# Altium integrated library common.IntLib: 74 symbols
Pins are listed as number, name and electrical type; pins without a type are passive.

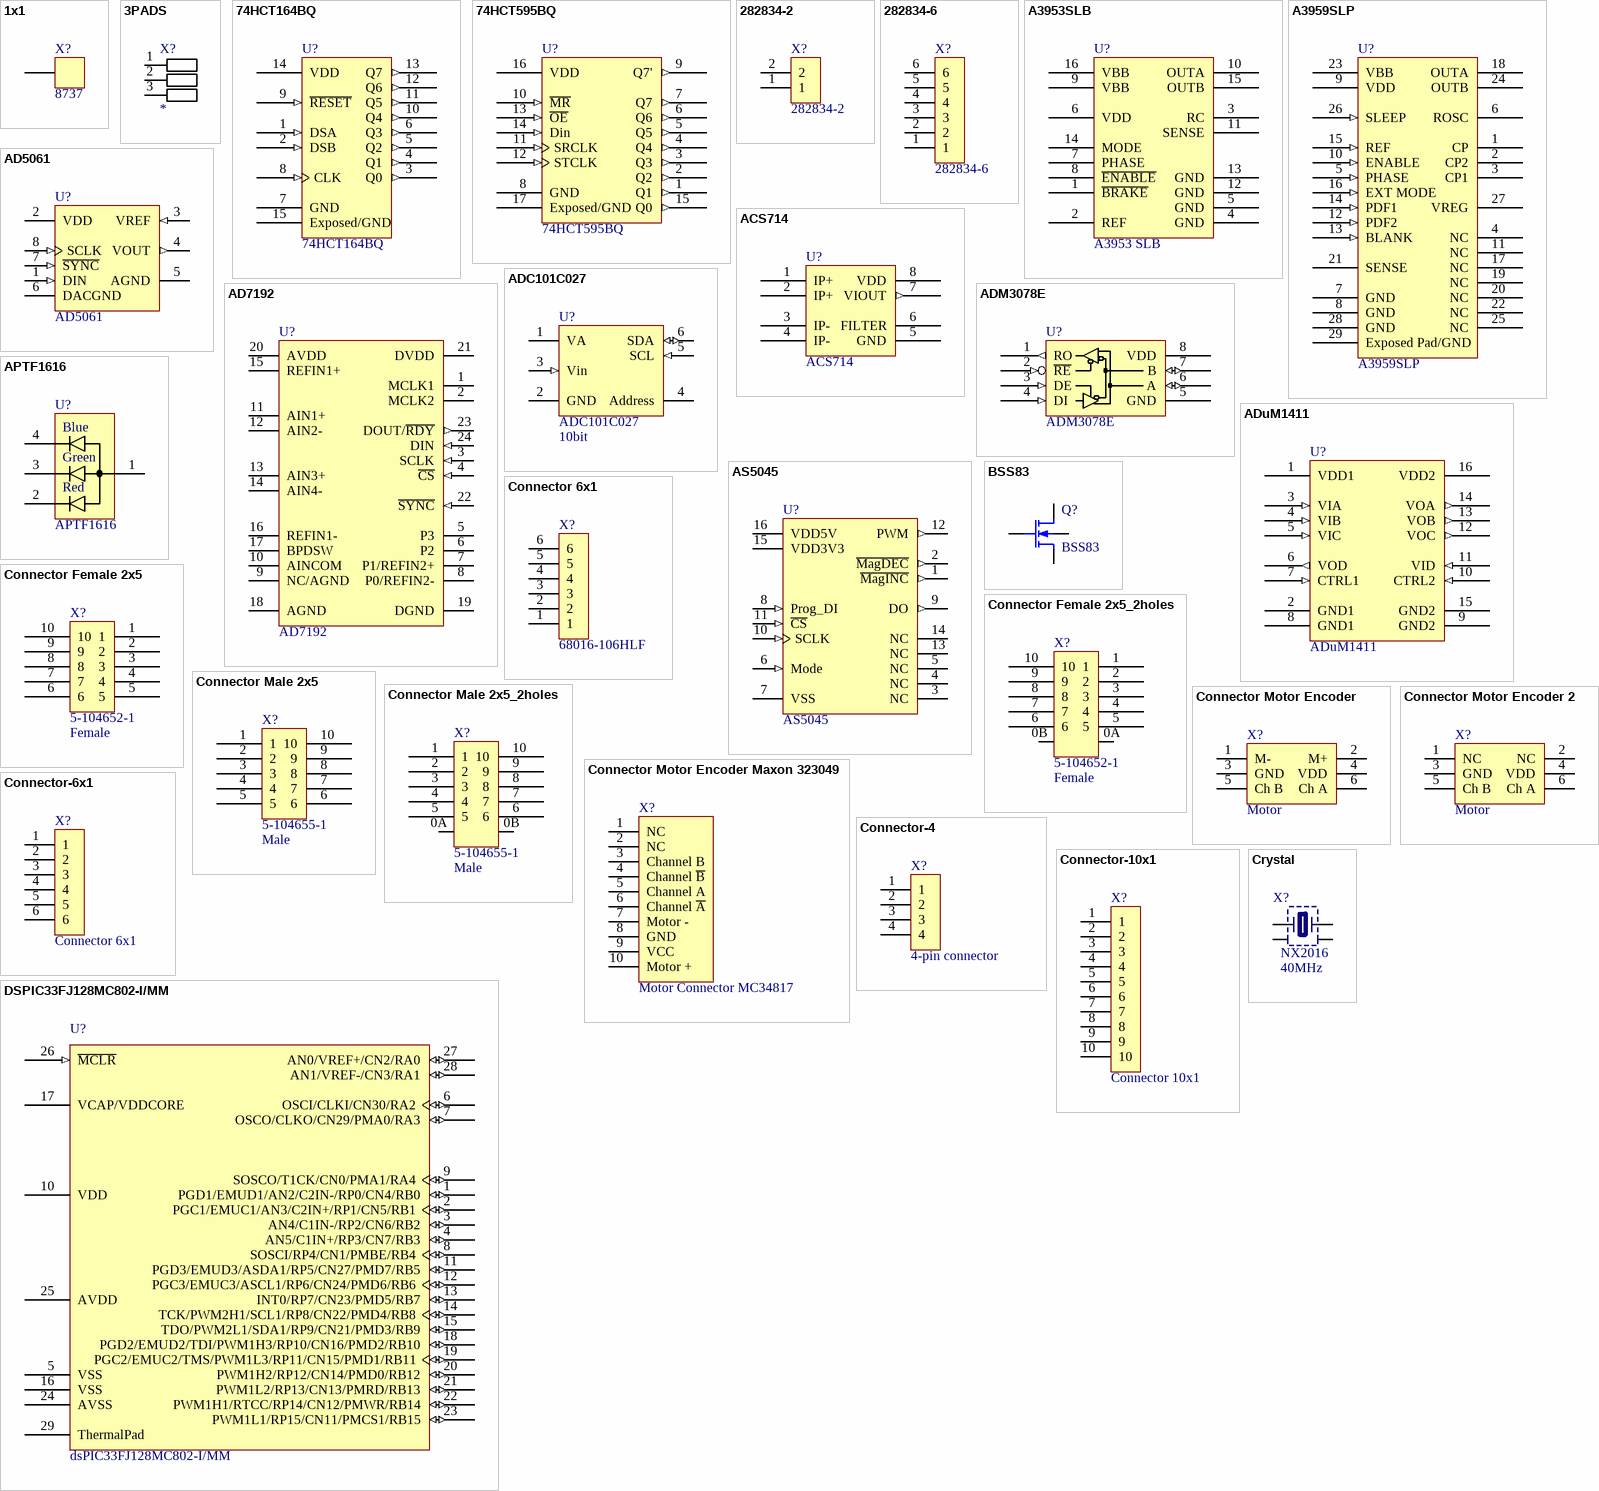
[diagram p0: symbols 1x1 to DSPIC33FJ128MC802-I/MM]

## 1x1
designator X?, comment 8737
Single pin connector
footprint 1x1 (Single hole connector)
footprint 8737 (1-pin wire-to-board connector, 4x4mm, Pitch 2.54mm, IPC Low Density)
footprint Battery (Battery connector, hole 1.1mm)
footprint Battery-HC (High current battery connector, hole 1.8mm)
pins: 1

## 3PADS
designator X?
3 pads
footprint 3pads (Pads, Body 3x2mm, Pitch 2mm, IPC Low Density)
pins: 1, 2, 3

## 74HCT164BQ
designator U?
8bit serial-to-parallel shift register, 5V supply
footprint DHVQFN14 (DHVQFN14, 14-Pin, Body 3.0x2.5mm, Pitch 0.5mm, IPC Low Density)
pins: 1 DSA (in), 2 DSB (in), 3 Q0 (out), 4 Q1 (out), 5 Q2 (out), 6 Q3 (out), 7 GND (power), 8 CLK (in), 9 ~{RESET} (in), 10 Q4 (out), 11 Q5 (out), 12 Q6 (out), 13 Q7 (out), 14 VDD (power), 15 Exposed/GND (power)

## 74HCT595BQ
designator U?
8bit serial-to-serial/parallel shift register with storage register, 5V supply
footprint DHVQFN16 (DHVQFN16, 14-Pin, Body 3.5x2.5mm, Pitch 0.5mm, IPC Low Density)
pins: 1 Q1 (out), 2 Q2 (out), 3 Q3 (out), 4 Q4 (out), 5 Q5 (out), 6 Q6 (out), 7 Q7 (out), 8 GND (power), 9 Q7' (out), 10 ~{MR} (in), 11 SRCLK (in), 12 STCLK (in), 13 ~{OE} (in), 14 Din (in), 15 Q0 (out), 16 VDD (power), 17 Exposed/GND (power)

## 282834-2
designator X?
2-pin wire-to-board connector
footprint 282834-2 (6-pin wire-to-board connector, 5.54x6.5mm, Pitch 2.54mm, IPC Low Density)
pins: 1, 2

## 282834-6
designator X?
6-pin wire-to-board connector
footprint 282834-6 (6-pin wire-to-board connector, 15.7x6.5mm, Pitch 2.54mm, IPC Low Density)
pins: 1, 2, 3, 4, 5, 6

## A3953SLB
designator U?, comment A3953 SLB
Full-Bridge PWM Motor Driver 1.3A, 50V, 3-5.5V supply
footprint SOICW-16_M (16-Pin Wide Body Small Outline Integrated Circuit 1.27 mm Pitch, IPC Low Density)
pins: 1 ~{BRAKE}, 2 REF, 3 RC, 4 GND (power), 5 GND (power), 6 VDD (power), 7 PHASE, 8 ~{ENABLE}, 9 VBB (power), 10 OUTA, 11 SENSE, 12 GND (power), 13 GND (power), 14 MODE, 15 OUTB, 16 VBB (power)

## A3959SLP
designator U?
DMOS Full-Bridge PWM Motor Driver 3A, 50V, 5V supply
footprint TSSOP65-28M (TSSOP, 28-Leads, Exposed Pad, Body 9.7x4.4mm, Pitch 0.65mm, IPC Low Density)
footprint TSSOP65-28M-thinpads (TSSOP, 28-Leads, Exposed Pad, Body 9.7x4.4mm, Pitch 0.65mm, IPC Low Density)
pins: 1 CP, 2 CP2, 3 CP1, 4 NC, 5 PHASE (in), 6 ROSC, 7 GND (power), 8 GND (power), 9 VDD (power), 10 ENABLE (in), 11 NC, 12 PDF2 (in), 13 BLANK (in), 14 PDF1 (in), 15 REF (in), 16 EXT MODE (in), 17 NC, 18 OUTA, 19 NC, 20 NC, 21 SENSE, 22 NC, 23 VBB (power), 24 OUTB, 25 NC, 26 SLEEP (in), 27 VREG, 28 GND, 29 Exposed Pad/GND (power)

## ACS714
designator U?
Hall Effect-Based Linear Current Sensor
footprint SOIC-8_M (SOIC, 8-Leads, Body 4.9x3.9mm, Pitch 1.27mm, IPC Low Density)
pins: 1 IP+, 2 IP+, 3 IP-, 4 IP-, 5 GND (power), 6 FILTER, 7 VIOUT (out), 8 VDD (power)

## AD5061
designator U?
DAC, SPI (up to 30MHz), settling time: 4us, 16bit, VDD: 2.7-5.5V
footprint SOT23-8 (8-Pin Small Outline Transistor Package, Body 2.9x2.8mm, IPC Low Density)
pins: 1 DIN (in), 2 VDD (power), 3 VREF (in), 4 VOUT (out), 5 AGND (power), 6 DACGND (power), 7 ~{SYNC} (in), 8 SCLK (in)

## AD7192
designator U?
2-channel 24-bit ADC with PGA
footprint TSSOP65-24N (TSSOP, 24-Leads, Body 7.8x4.4mm, Pitch 0.65mm, IPC Medium Density)
pins: 1 MCLK1, 2 MCLK2, 3 SCLK (in), 4 ~{CS} (in), 5 P3, 6 P2, 7 P1/REFIN2+, 8 P0/REFIN2-, 9 NC/AGND, 10 AINCOM, 11 AIN1+, 12 AIN2-, 13 AIN3+, 14 AIN4-, 15 REFIN1+, 16 REFIN1-, 17 BPDSW, 18 AGND, 19 DGND, 20 AVDD, 21 DVDD, 22 ~{SYNC} (in), 23 DOUT/~{RDY} (out), 24 DIN (in)

## ADC101C027
designator U?  Resolution: 10bit
ADC, SAR, 10bit
footprint TSOT23-6 (4-Pin Transistor Package, Body 2.9x2.85mm, IPC Low Density)
pins: 1 VA (power), 2 GND (power), 3 Vin (in), 4 Address, 5 SCL (in), 6 SDA (io)

## ADM3078E
designator U?
Half-Duplex RS485 Transciever, 3.3V, 16Mbps
footprint SOIC-8_M (SOIC, 8-Leads, Body 4.9x3.9mm, Pitch 1.27mm, IPC Low Density)
pins: 1 RO (out), 2 ~{RE} (in), 3 DE (in), 4 DI (in), 5 GND (power), 6 A (io), 7 B (io), 8 VDD (power)

## ADuM1411
designator U?
Quad-Channel Digital Isolator, 3V/5V level translation
footprint RW-16_M (16-Pin Wide Body Small Outline Integrated Circuit 1.27 mm Pitch, IPC Low Density)
pins: 1 VDD1 (power), 2 GND1 (power), 3 VIA (in), 4 VIB (in), 5 VIC (in), 6 VOD (out), 7 CTRL1 (in), 8 GND1 (power), 9 GND2 (power), 10 CTRL2 (in), 11 VID (in), 12 VOC (out), 13 VOB (out), 14 VOA (out), 15 GND2 (power), 16 VDD2 (power)

## APTF1616
designator U?
1.6x1.6mm 3-Color LED; Blue; Green; Red
footprint APTF1616 (LED, Body 1.6x1.6mm, Pitch 0.85mm, IPC Low Density)
pins: 1, 2, 3, 4
text: Blue; Green; Red

## AS5045
designator U?
12 Bit Programmable Magnetic Rotary Encoder
footprint SSOP16 (16-Pin Shrink Small-Outline Package, Body 7.8x6.2mm, 0.65 mm Pitch, IPC Medium Density)
pins: 1 ~{MagINC} (out), 2 ~{MagDEC} (out), 3 NC, 4 NC, 5 NC, 6 Mode (in), 7 VSS (power), 8 Prog_DI (in), 9 DO (out), 10 SCLK (in), 11 ~{CS} (in), 12 PWM (out), 13 NC, 14 NC, 15 VDD3V3 (power), 16 VDD5V (power)

## BSS83
designator Q?
N-Channel MOSFET 50mA, 10V, 45R
footprint SOT143B (4-Pin Transistor Package, Body 3.0x2.5mm, IPC Low Density)
pins: 1 B, 2 S, 3 D, 4 G

## Connector 6x1
designator X?, comment 68016-106HLF
Connector 6x1 pins
footprint Connector 2.54 6x1 (6-pin through-hole connector, pitch 2.54mm, hole size 0.8mm)
pins: 1, 2, 3, 4, 5, 6

## Connector Female 2x5
designator X?, comment 5-104652-1  Type: Female
Connector Female 2x5
footprint 5-104652-1 (2x5 Connector Female, Body 10.82x3.05mm, Pitch 1.27mm, IPC Low Density)
footprint 5-104652-1wo (2x5 Connector Female without holes, Body 10.82x3.05mm, Pitch 1.27mm, IPC Low Density)
footprint TLE-105-01-G-D-DV (2x5 Connector Female, Body 10x4mm, Pitch 2mm, IPC Low Density)
pins: 1, 2, 3, 4, 5, 6, 7, 8, 9, 10

## Connector Female 2x5_2holes
designator X?, comment 5-104652-1  Type: Female
Connector Female 2x5
footprint 5-104652-1 (2x5 Connector Female, Body 10.82x3.05mm, Pitch 1.27mm, IPC Low Density)
pins: 0A, 0B, 1, 2, 3, 4, 5, 6, 7, 8, 9, 10

## Connector Male 2x5
designator X?, comment 5-104655-1  Type: Male
Connector Male 2x5
footprint 5-104655-1 (2x5 Connector Male, Body 9.44x5.71mm, Pitch 1.27mm, IPC Low Density)
footprint 5-104655-1WO (2x5 Connector Male without holes, Body 9.44x5.71mm, Pitch 1.27mm, IPC Low Density)
footprint TMM-105-01-G-D-SM (2x5 Connector Female without holes, Body 10x3.94mm, Pitch 2mm, IPC Low Density)
pins: 1, 2, 3, 4, 5, 6, 7, 8, 9, 10

## Connector Male 2x5_2holes
designator X?, comment 5-104655-1  Type: Male
Connector Male 2x5
footprint 5-104655-1 (2x5 Connector Male, Body 9.44x5.71mm, Pitch 1.27mm, IPC Low Density)
pins: 0A, 0B, 1, 2, 3, 4, 5, 6, 7, 8, 9, 10

## Connector Motor Encoder
designator X?, comment Motor
Connector Faulhaber Motor with Encoder IE2
footprint IE2 (Connector Faulhaber Motor Encloder, Body 15.24x9.2mm, Pins 3x2, Grid 2.54mm)
pins: 1 M-, 2 M+, 3 GND, 4 VDD, 5 Ch B, 6 Ch A

## Connector Motor Encoder 2
designator X?, comment Motor
Connector Faulhaber Motor with Encoder IE2
footprint IE2 (Connector Faulhaber Motor Encloder, Body 15.24x9.2mm, Pins 3x2, Grid 2.54mm)
pins: 1 NC, 2 NC, 3 GND, 4 VDD, 5 Ch B, 6 Ch A

## Connector Motor Encoder Maxon 323049
designator X?, comment Motor Connector MC34817
Maxon Motor Connector
footprint MC34817 (10-pin FFC/FPC Connector from Multicomp, Body 17.4x2.9mm, Pitch 1mm, IPC Low Density)
pins: 1 NC, 2 NC, 3 Channel B, 4 Channel ~{B}, 5 Channel A, 6 Channel ~{A}, 7 Motor -, 8 GND, 9 VCC, 10 Motor +

## Connector-4
designator X?, comment 4-pin connector
footprint MicroMatch-4-SMD (7-338069-4) (4-pin Micro Match Connector Female, Body 9.7x5.0mm, Pitch 1.27mm, IPC Low Density)
pins: 1, 2, 3, 4

## Connector-6x1
designator X?, comment Connector 6x1
6-pin 1-row connector
pins: 1, 2, 3, 4, 5, 6

## Connector-10x1
designator X?, comment Connector 10x1
10-pin 1-row connector
pins: 1, 2, 3, 4, 5, 6, 7, 8, 9, 10

## Crystal
designator X?, comment value 40MHz  Name: NX2016  (hidden comment: NX2016AB-40MHz)
Crystal
footprint NX2016AB (Crystal Package, Body 2.0x1.6mm, Pitch 1.05mm, IPC Low Density)
footprint NX2520SA (Crystal Package, Body 2.5x2.0mm, Pitch 1.3mm, IPC Low Density)
pins: 1, 2, 3, 4

## DSPIC33FJ128MC802-I/MM
designator U?, comment dsPIC33FJ128MC802-I/MM
High-Performance 16-bit Digital Signal Controller, 128 KB Flash, 16 KB RAM, 28-Pin QFN, Industrial Temperature; Published: 29-Jan-2009; DatasheetVersion: revB, Mar-2008; PackageVersion: revAW, Oct-2008; PackageReference: QFNS-MM28; Publisher: Altium Limited; PackageDescription: 28-Lead Plastic Quad Flat, No Lead Package (MM) - 6x6x0.9 mm Body [QFN-S] with 0.40 mm Contact Length; ComponentLink1Description: Manufacturer Link; ComponentLink1URL: http://www.microchip.com; ComponentLink2Description: Datasheet; ComponentLink2URL: http://ww1.microchip.com/downloads/en/DeviceDoc/70291B.pdf; ComponentLink3Description: Packaging Specification; ComponentLink3URL: http://ww1.microchip.com/downloads/en/PackagingSpec/00049AW.pdf
footprint QFNS-MM28_M (QFN, 28-Leads, Body 6x6 mm, Pitch 0.65mm, IPC Low Density)
footprint QFNS-MM28_M_SmallExp (QFN, 28-Leads, Body 6x6 mm, Pitch 0.65mm, IPC Low Density)
pins: 1 PGD1/EMUD1/AN2/C2IN-/RP0/CN4/RB0 (io), 2 PGC1/EMUC1/AN3/C2IN+/RP1/CN5/RB1 (io), 3 AN4/C1IN-/RP2/CN6/RB2 (io), 4 AN5/C1IN+/RP3/CN7/RB3 (io), 5 VSS (power), 6 OSCI/CLKI/CN30/RA2 (io), 7 OSCO/CLKO/CN29/PMA0/RA3 (io), 8 SOSCI/RP4/CN1/PMBE/RB4 (io), 9 SOSCO/T1CK/CN0/PMA1/RA4 (io), 10 VDD (power), 11 PGD3/EMUD3/ASDA1/RP5/CN27/PMD7/RB5 (io), 12 PGC3/EMUC3/ASCL1/RP6/CN24/PMD6/RB6 (io), 13 INT0/RP7/CN23/PMD5/RB7 (io), 14 TCK/PWM2H1/SCL1/RP8/CN22/PMD4/RB8 (io), 15 TDO/PWM2L1/SDA1/RP9/CN21/PMD3/RB9 (io), 16 VSS (power), 17 VCAP/VDDCORE (power), 18 PGD2/EMUD2/TDI/PWM1H3/RP10/CN16/PMD2/RB10 (io), 19 PGC2/EMUC2/TMS/PWM1L3/RP11/CN15/PMD1/RB11 (io), 20 PWM1H2/RP12/CN14/PMD0/RB12 (io), 21 PWM1L2/RP13/CN13/PMRD/RB13 (io), 22 PWM1H1/RTCC/RP14/CN12/PMWR/RB14 (io), 23 PWM1L1/RP15/CN11/PMCS1/RB15 (io), 24 AVSS (power), 25 AVDD (power), 26 ~{MCLR} (in), 27 AN0/VREF+/CN2/RA0 (io), 28 AN1/VREF-/CN3/RA1 (io), 29 ThermalPad

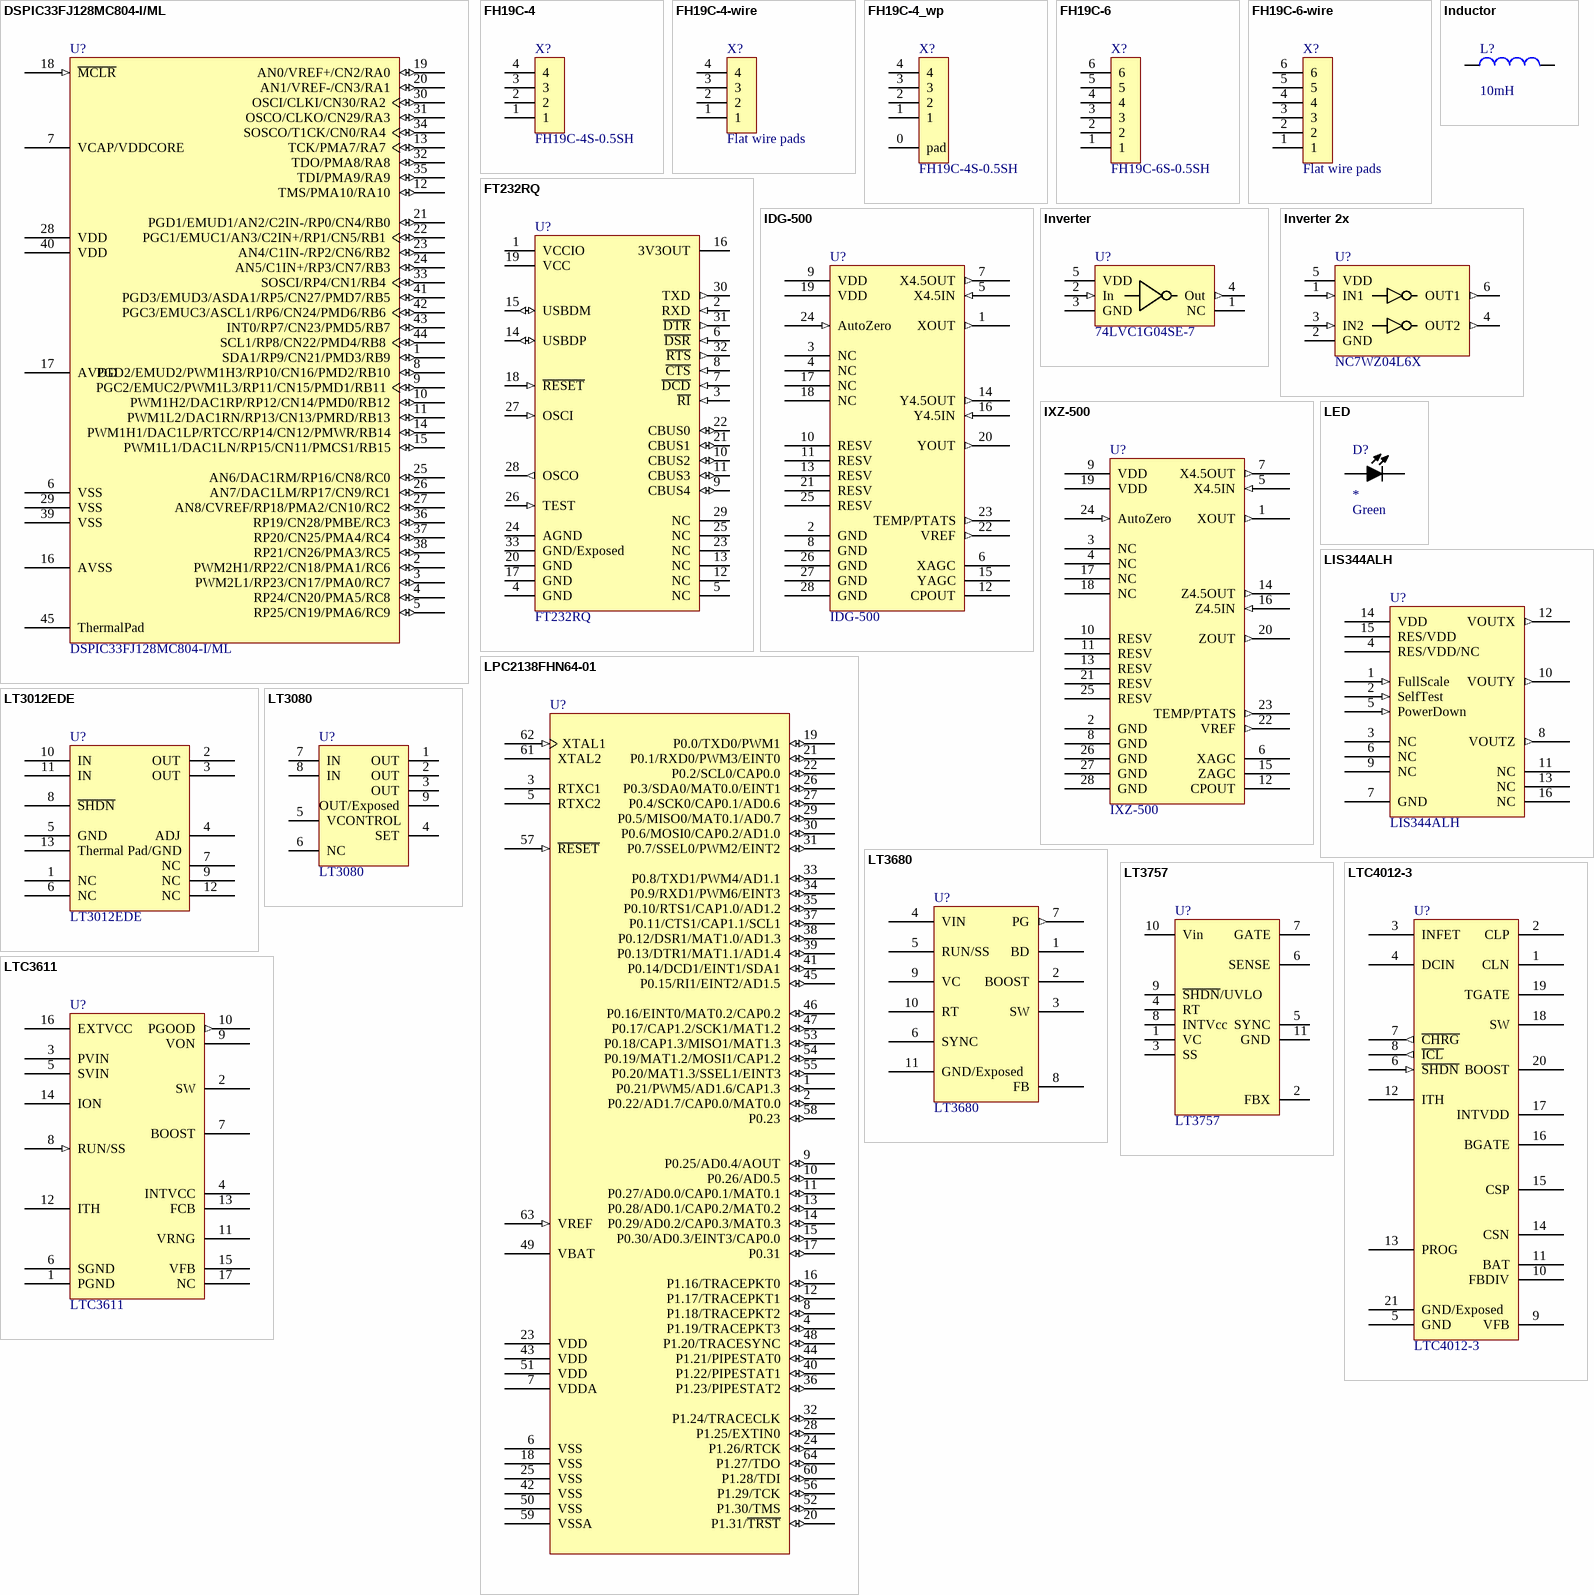
[diagram p1: symbols DSPIC33FJ128MC804-I/ML to LTC4012-3]

## DSPIC33FJ128MC804-I/ML
designator U?
High-Performance 16-bit Digital Signal Controller, 128 KB Flash, 16 KB RAM, 44-Pin QFN, Industrial Temperature; Published: 29-Jan-2009; DatasheetVersion: revB, Mar-2008; PackageVersion: revAW, Oct-2008; PackageReference: QFN-ML44; Publisher: Altium Limited; PackageDescription: 44-Lead Plastic Quad Flat, No Lead Package (ML) - 8x8 mm Body [QFN]; Code_JEDEC: MO-220; Code_IPC: QFN65P800X800-44V2; ComponentLink1Description: Manufacturer Link; ComponentLink1URL: http://www.microchip.com; ComponentLink2Description: Datasheet; ComponentLink2URL: http://ww1.microchip.com/downloads/en/DeviceDoc/70291B.pdf; ComponentLink3Description: Packaging Specification; ComponentLink3URL: http://ww1.microchip.com/downloads/en/PackagingSpec/00049AW.pdf
footprint QFN-ML44_L (QFN, 44-Leads, Body 8x8 mm, Pitch 0.65mm, IPC High Density)
footprint QFN-ML44_M (QFN, 44-Leads, Body 8x8 mm, Pitch 0.65mm, IPC Low Density)
footprint QFN-ML44_N (QFN, 44-Leads, Body 8x8 mm, Pitch 0.65mm, IPC Medium Density)
pins: 1 SDA1/RP9/CN21/PMD3/RB9 (io), 2 PWM2H1/RP22/CN18/PMA1/RC6 (io), 3 PWM2L1/RP23/CN17/PMA0/RC7 (io), 4 RP24/CN20/PMA5/RC8 (io), 5 RP25/CN19/PMA6/RC9 (io), 6 VSS (power), 7 VCAP/VDDCORE (power), 8 PGD2/EMUD2/PWM1H3/RP10/CN16/PMD2/RB10 (io), 9 PGC2/EMUC2/PWM1L3/RP11/CN15/PMD1/RB11 (io), 10 PWM1H2/DAC1RP/RP12/CN14/PMD0/RB12 (io), 11 PWM1L2/DAC1RN/RP13/CN13/PMRD/RB13 (io), 12 TMS/PMA10/RA10 (io), 13 TCK/PMA7/RA7 (io), 14 PWM1H1/DAC1LP/RTCC/RP14/CN12/PMWR/RB14 (io), 15 PWM1L1/DAC1LN/RP15/CN11/PMCS1/RB15 (io), 16 AVSS (power), 17 AVDD (power), 18 ~{MCLR} (in), 19 AN0/VREF+/CN2/RA0 (io), 20 AN1/VREF-/CN3/RA1 (io), 21 PGD1/EMUD1/AN2/C2IN-/RP0/CN4/RB0 (io), 22 PGC1/EMUC1/AN3/C2IN+/RP1/CN5/RB1 (io), 23 AN4/C1IN-/RP2/CN6/RB2 (io), 24 AN5/C1IN+/RP3/CN7/RB3 (io), 25 AN6/DAC1RM/RP16/CN8/RC0 (io), 26 AN7/DAC1LM/RP17/CN9/RC1 (io), 27 AN8/CVREF/RP18/PMA2/CN10/RC2 (io), 28 VDD (power), 29 VSS (power), 30 OSCI/CLKI/CN30/RA2 (io), 31 OSCO/CLKO/CN29/RA3 (io), 32 TDO/PMA8/RA8 (io), 33 SOSCI/RP4/CN1/RB4 (io), 34 SOSCO/T1CK/CN0/RA4 (io), 35 TDI/PMA9/RA9 (io), 36 RP19/CN28/PMBE/RC3 (io), 37 RP20/CN25/PMA4/RC4 (io), 38 RP21/CN26/PMA3/RC5 (io), 39 VSS (power), 40 VDD (power), 41 PGD3/EMUD3/ASDA1/RP5/CN27/PMD7/RB5 (io), 42 PGC3/EMUC3/ASCL1/RP6/CN24/PMD6/RB6 (io), 43 INT0/RP7/CN23/PMD5/RB7 (io), 44 SCL1/RP8/CN22/PMD4/RB8 (io), 45 ThermalPad

## FH19C-4
designator X?, comment FH19C-4S-0.5SH
Board to flexible PCB/wire connector
footprint FH19C-4S-0.5SH (Board-to-flexible-PCB connector, 4 pins, Body 4x3mm, Pitch 0.5mm, IPC Low Density)
pins: 1, 2, 3, 4

## FH19C-4-wire
designator X?, comment Flat wire pads
Board to flexible PCB/wire connector
footprint FH19C-4S-0.5SH-wire (Wire for Board-to-flexible-PCB connector, 4 pins, Body 2x0.5mm, Pitch 0.5mm, IPC Low Density)
pins: 1, 2, 3, 4

## FH19C-4_wp
designator X?, comment FH19C-4S-0.5SH
Board to flexible PCB/wire connector
footprint FH19C-4S-0.5SH (Board-to-flexible-PCB connector, 4 pins, Body 4x3mm, Pitch 0.5mm, IPC Low Density)
pins: 0 pad, 1, 2, 3, 4

## FH19C-6
designator X?, comment FH19C-6S-0.5SH
Board to flexible PCB/wire connector
footprint FH19C-6S-0.5SH (Board-to-flexible-PCB connector, 6 pins, Body 5.15x3mm, Pitch 0.5mm, IPC Low Density)
pins: 1, 2, 3, 4, 5, 6

## FH19C-6-wire
designator X?, comment Flat wire pads
Board to flexible PCB/wire connector
footprint FH19C-6S-0.5SH-wire (Wire for Board-to-flexible-PCB connector, 6 pins, Body 2x0.5mm, Pitch 0.5mm, IPC Low Density)
pins: 1, 2, 3, 4, 5, 6

## FT232RQ
designator U?
FT232R USB UART; Manufacturer: *; Note: *; ManufacturerPartNo: *
footprint QFN-32 (32-Pin QFN 0.5 mm Pitch)
footprint QFN-32_smallPad (QFN 32-Pin, Body 5x5mm, Pitch 0.5mm, IPC Low Density)
pins: 1 VCCIO (power), 2 RXD (in), 3 ~{RI} (in), 4 GND (power), 5 NC, 6 ~{DSR} (in), 7 ~{DCD} (in), 8 ~{CTS} (in), 9 CBUS4 (io), 10 CBUS2 (io), 11 CBUS3 (io), 12 NC, 13 NC, 14 USBDP (io), 15 USBDM (io), 16 3V3OUT (power), 17 GND (power), 18 ~{RESET} (in), 19 VCC (power), 20 GND (power), 21 CBUS1 (io), 22 CBUS0 (io), 23 NC, 24 AGND (power), 25 NC, 26 TEST (in), 27 OSCI (in), 28 OSCO (out), 29 NC, 30 TXD (out), 31 ~{DTR} (out), 32 ~{RTS} (out), 33 GND/Exposed (power)
2 alternate drawings of the same symbol

## IDG-500
designator U?
X-,Y-Axis Rate Gyroscope
footprint QFN-28_M (QFN, 28-Leads, Body 5x4mm, Pitch 0.5mm, IPC Low Density)
pins: 1 XOUT (out), 2 GND (power), 3 NC, 4 NC, 5 X4.5IN (in), 6 XAGC, 7 X4.5OUT (out), 8 GND (power), 9 VDD (power), 10 RESV, 11 RESV, 12 CPOUT, 13 RESV, 14 Y4.5OUT (out), 15 YAGC, 16 Y4.5IN (in), 17 NC, 18 NC, 19 VDD (power), 20 YOUT (out), 21 RESV, 22 VREF (out), 23 TEMP/PTATS (out), 24 AutoZero (in), 25 RESV, 26 GND (power), 27 GND (power), 28 GND (power)

## Inductor
designator L?  value 10mH
Inductor; Code_IEC: 1005; Published: 8-Jun-2000; LatestRevisionDate: 17-Jul-2002; LatestRevisionNote: Re-released for DXP Platform.; PackageReference: 0402-A; Publisher: Altium Limited; Code_JEITA: 0402
simulation model INDUCTOR (Inductor)
signal-integrity model Inductor
footprint HCP0704 (Inductor from Coiltronics, Body 6.8x6.8mm, IPC Low Density)
footprint IHLP5050 (Inductor from Vishay/Dale, Body 13.2x12.9mm, IPC Low Density)
pins: 1, 2

## Inverter
designator U?, comment 74LVC1G04SE-7
Inverter
footprint SOT353 (5-Pin Transistor Package, Body 2.0x1.2mm, IPC Low Density)
footprint SOT353-thin_pads (5-Pin Transistor Package, Body 2.0x1.2mm, IPC Low Density)
pins: 1 NC, 2 In (in), 3 GND (power), 4 Out (out), 5 VDD (power)

## Inverter 2x
designator U?, comment NC7WZ04L6X
Double Inverter
footprint MicroPak-6 (MicroPak, Body 1.45x1.0mm, Pitch 0.5mm, IPC Low Density)
pins: 1 IN1 (in), 2 GND (power), 3 IN2 (in), 4 OUT2 (out), 5 VDD (power), 6 OUT1 (out)

## IXZ-500
designator U?
X-,Z-Axis Rate Gyroscope
footprint QFN-28_M (QFN, 28-Leads, Body 5x4mm, Pitch 0.5mm, IPC Low Density)
pins: 1 XOUT (out), 2 GND (power), 3 NC, 4 NC, 5 X4.5IN (in), 6 XAGC, 7 X4.5OUT (out), 8 GND (power), 9 VDD (power), 10 RESV, 11 RESV, 12 CPOUT, 13 RESV, 14 Z4.5OUT (out), 15 ZAGC, 16 Z4.5IN (in), 17 NC, 18 NC, 19 VDD (power), 20 ZOUT (out), 21 RESV, 22 VREF (out), 23 TEMP/PTATS (out), 24 AutoZero (in), 25 RESV, 26 GND (power), 27 GND (power), 28 GND (power)

## LED
designator D?  Color: Green
LED
footprint IR-LED-2.54 (2-pin LED connector, Pitch 2.54mm, IPC Low Density)
pins: 1 A, 2 C

## LIS344ALH
designator U?
MEMS inertial sensor; 2/6g 3-axis accelerometer
footprint LGA16L (Land Grid Array, Body 4.0x4.0mm, Pitch 0.65mm, IPC Low Density)
pins: 1 FullScale (in), 2 SelfTest (in), 3 NC, 4 RES/VDD/NC, 5 PowerDown (in), 6 NC, 7 GND (power), 8 VOUTZ (out), 9 NC, 10 VOUTY (out), 11 NC, 12 VOUTX (out), 13 NC, 14 VDD (power), 15 RES/VDD, 16 NC

## LPC2138FHN64-01
designator U?
ARM7 16/32-Bit Microcontroller, 512KB Flash, 32KB RAM, Enhanced UART, ADC, Fast I/O and BOD, 64-Lead LQFP; Published: 17-Aug-2007; DatasheetVersion: rev.03, Sep-2006; PackageVersion: Mar-2004; PackageReference: SOT804-2; Publisher: Altium Limited; PackageDescription: 64-Pin Plastic Thermal Enhanced Very Thin Quad Flat Pack No-Lead, HVQFN64; Code_JEDEC: MO-220; ComponentLink1Description: Manufacturer Link; ComponentLink1URL: http://www.nxp.com/; ComponentLink2Description: Datasheet; ComponentLink2URL: http://www.standardics.nxp.com/products/lpc2000/datasheet/lpc2131.lpc2132.lpc2134.lpc2136.lpc2138.pdf
footprint HVQFN-64 (HVQFN 64-Pin, Body 9x9mm, Pitch 0.5mm, IPC Low Density)
pins: 1 P0.21/PWM5/AD1.6/CAP1.3 (io), 2 P0.22/AD1.7/CAP0.0/MAT0.0 (io), 3 RTXC1, 4 P1.19/TRACEPKT3 (io), 5 RTXC2, 6 VSS (power), 7 VDDA (power), 8 P1.18/TRACEPKT2 (io), 9 P0.25/AD0.4/AOUT (io), 10 P0.26/AD0.5 (io), 11 P0.27/AD0.0/CAP0.1/MAT0.1 (io), 12 P1.17/TRACEPKT1 (io), 13 P0.28/AD0.1/CAP0.2/MAT0.2 (io), 14 P0.29/AD0.2/CAP0.3/MAT0.3 (io), 15 P0.30/AD0.3/EINT3/CAP0.0 (io), 16 P1.16/TRACEPKT0 (io), 17 P0.31 (io), 18 VSS (power), 19 P0.0/TXD0/PWM1 (io), 20 P1.31/~{TRST} (io), 21 P0.1/RXD0/PWM3/EINT0 (io), 22 P0.2/SCL0/CAP0.0 (io), 23 VDD (power), 24 P1.26/RTCK (io), 25 VSS (power), 26 P0.3/SDA0/MAT0.0/EINT1 (io), 27 P0.4/SCK0/CAP0.1/AD0.6 (io), 28 P1.25/EXTIN0 (io), 29 P0.5/MISO0/MAT0.1/AD0.7 (io), 30 P0.6/MOSI0/CAP0.2/AD1.0 (io), 31 P0.7/SSEL0/PWM2/EINT2 (io), 32 P1.24/TRACECLK (io), 33 P0.8/TXD1/PWM4/AD1.1 (io), 34 P0.9/RXD1/PWM6/EINT3 (io), 35 P0.10/RTS1/CAP1.0/AD1.2 (io), 36 P1.23/PIPESTAT2 (io), 37 P0.11/CTS1/CAP1.1/SCL1 (io), 38 P0.12/DSR1/MAT1.0/AD1.3 (io), 39 P0.13/DTR1/MAT1.1/AD1.4 (io), 40 P1.22/PIPESTAT1 (io), 41 P0.14/DCD1/EINT1/SDA1 (io), 42 VSS (power), 43 VDD (power), 44 P1.21/PIPESTAT0 (io), 45 P0.15/RI1/EINT2/AD1.5 (io), 46 P0.16/EINT0/MAT0.2/CAP0.2 (io), 47 P0.17/CAP1.2/SCK1/MAT1.2 (io), 48 P1.20/TRACESYNC (io), 49 VBAT (power), 50 VSS (power), 51 VDD (power), 52 P1.30/TMS (io), 53 P0.18/CAP1.3/MISO1/MAT1.3 (io), 54 P0.19/MAT1.2/MOSI1/CAP1.2 (io), 55 P0.20/MAT1.3/SSEL1/EINT3 (io), 56 P1.29/TCK (io), 57 ~{RESET} (in), 58 P0.23 (io), 59 VSSA (power), 60 P1.28/TDI (io), 61 XTAL2, 62 XTAL1 (in), 63 VREF (in), 64 P1.27/TDO (io)

## LT3012EDE
designator U?
250mA, 4V to 80V, Low Dropout Micropower Linear Regulator
footprint DFN-12 (DFN, 12-Leads, Body 4x3mm, Pitch 0.5mm, IPC Low Density)
footprint DFN-12 - DSC (DFN with double solder connection, 12-Leads, Body 4x3mm, Pitch 0.5mm, IPC Low Density)
pins: 1 NC, 2 OUT (power), 3 OUT (power), 4 ADJ, 5 GND (power), 6 NC, 7 NC, 8 ~{SHDN}, 9 NC, 10 IN (power), 11 IN (power), 12 NC, 13 Thermal Pad/GND (power)

## LT3080
designator U?
LDO adj, input: 0-36V, 1.1A
footprint MSOP-8-TP (MSOP, 8-Leads+thermal pad, Body 3x3mm, Pitch 0.65mm, IPC Medium Density)
pins: 1 OUT, 2 OUT, 3 OUT, 4 SET, 5 VCONTROL, 6 NC, 7 IN, 8 IN, 9 OUT/Exposed

## LT3680
designator U?
36V, 3.5A, 2.4MHz Step-Down Switching Regulator
footprint DFN-10 (DFN, 10-Leads, Body 3x3mm, Pitch 0.5mm, IPC Low Density)
footprint DFN-10 - DSC (DFN with double solder connections, 10-Leads, Body 3x3mm, Pitch 0.5mm, IPC Low Density)
footprint MSOP-10-TP (MSOP, 10-Leads+thermal pad, Body 3x4.9mm, Pitch 0.5mm, IPC Medium Density)
pins: 1 BD, 2 BOOST, 3 SW, 4 VIN, 5 RUN/SS, 6 SYNC, 7 PG (out), 8 FB, 9 VC, 10 RT, 11 GND/Exposed

## LT3757
designator U?
2.9-40V SEPIC, Flyback, Boost and Inverting Converter with external switch
footprint MSOP-10-TP (MSOP, 10-Leads+thermal pad, Body 3x4.9mm, Pitch 0.5mm, IPC Medium Density)
pins: 1 VC, 2 FBX, 3 SS, 4 RT, 5 SYNC, 6 SENSE, 7 GATE, 8 INTVcc, 9 ~{SHDN}/UVLO, 10 Vin, 11 GND

## LTC3611
designator U?
10A, 32V Synchronous Step-Down DC/DC Converter
footprint QFN-64-MultiPad2 (QFN, 64 Leads, Body 9x9mm, Pitch 0.5mm, IPC Low Density)
pins: 1 PGND, 2 SW, 3 PVIN, 4 INTVCC, 5 SVIN, 6 SGND, 7 BOOST, 8 RUN/SS (in), 9 VON, 10 PGOOD (out), 11 VRNG, 12 ITH, 13 FCB, 14 ION, 15 VFB, 16 EXTVCC, 17 NC

## LTC4012-3
designator U?
Multi-Chemistry Battery Charger
footprint QFN-20 (20-Pin QFN; 4x4mm; 0.5mm Pitch)
pins: 1 CLN, 2 CLP, 3 INFET, 4 DCIN, 5 GND, 6 ~{SHDN} (in), 7 ~{CHRG} (out), 8 ~{ICL} (out), 9 VFB, 10 FBDIV, 11 BAT, 12 ITH, 13 PROG, 14 CSN, 15 CSP, 16 BGATE, 17 INTVDD, 18 SW, 19 TGATE, 20 BOOST, 21 GND/Exposed

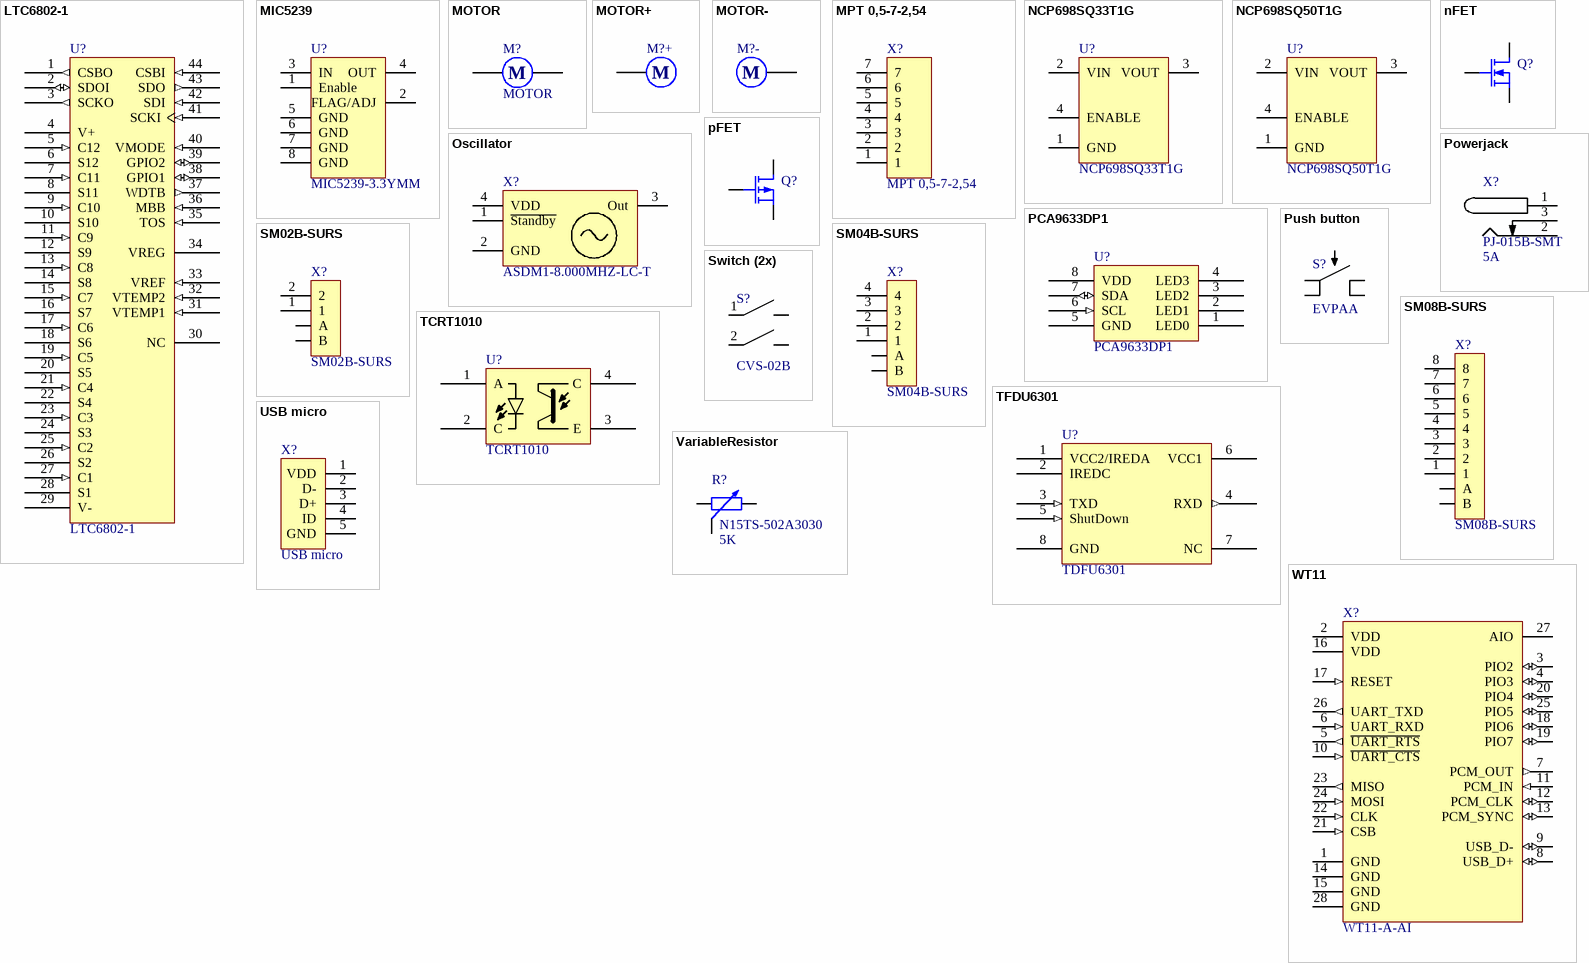
[diagram p2: symbols LTC6802-1 to WT11]

## LTC6802-1
designator U?
Multicell Battery Stack Monitor
footprint SSOP-44 (SSOP, 44-Leads, Body 13.1x5.6mm, Pitch 0.5mm, IPC Low Density)
pins: 1 CSBO (out), 2 SDOI (io), 3 SCKO (out), 4 V+ (power), 5 C12 (in), 6 S12, 7 C11 (in), 8 S11, 9 C10 (in), 10 S10, 11 C9 (in), 12 S9, 13 C8 (in), 14 S8, 15 C7 (in), 16 S7, 17 C6 (in), 18 S6, 19 C5 (in), 20 S5, 21 C4 (in), 22 S4, 23 C3 (in), 24 S3, 25 C2 (in), 26 S2, 27 C1 (in), 28 S1, 29 V- (power), 30 NC, 31 VTEMP1 (in), 32 VTEMP2 (in), 33 VREF (in), 34 VREG (power), 35 TOS (in), 36 MBB (in), 37 WDTB (out), 38 GPIO1 (io), 39 GPIO2 (io), 40 VMODE (in), 41 SCKI (in), 42 SDI (in), 43 SDO (out), 44 CSBI (in)

## MIC5239
designator U?, comment MIC5239-3.3YMM
LDO, 500mA, Vin:2.3V-30V
footprint MSOP-8 (MSOP, 8-Leads, Body 3x3mm, Pitch 0.65mm, IPC Medium Density)
footprint MSOP-8-thin_pads (MSOP, 8-Leads, Body 3x3mm, Pitch 0.65mm, IPC Medium Density)
pins: 1 Enable, 2 FLAG/ADJ, 3 IN (power), 4 OUT (power), 5 GND (power), 6 GND (power), 7 GND (power), 8 GND (power)

## MOTOR
designator M?
footprint Motor (Motor connection, hole 1.5mm,  pitch 5mm)
footprint MotorBrushed (Motor connection, hole 1.1mm,  pitch 2.54mm)
pins: 1, 2
text: M

## MOTOR+
designator M?+  (value not drawn)
Motor
footprint MotorBrushedSingle (Brushed motor power connector, hole 1.1mm)
pins: 1
text: M

## MOTOR-
designator M?-  (value not drawn)
Motor
footprint MotorBrushedSingle (Brushed motor power connector, hole 1.1mm)
pins: 1
text: M

## MPT 0,5-7-2,54
designator X?
7-pin wire-to-board connector
footprint MPT 0,5-7-2,54 (7-pin wire-to-board connector, 18.24x6.2mm, Pitch 2.54mm, IPC Low Density)
pins: 1, 2, 3, 4, 5, 6, 7

## NCP698SQ33T1G
designator U?
LDO fixed 3.3V, input: 3.6-6V, 150mA
footprint SC-82AB (4-Lead Body 2.0x1.25mm, Pitch 1.3mm, IPC Low Density)
pins: 1 GND (power), 2 VIN (power), 3 VOUT (power), 4 ENABLE

## NCP698SQ50T1G
designator U?
LDO fixed 5V, input: 5.3-6V, 150mA
footprint SC-82AB (4-Lead Body 2.0x1.25mm, Pitch 1.3mm, IPC Low Density)
pins: 1 GND (power), 2 VIN (power), 3 VOUT (power), 4 ENABLE

## nFET
designator Q?
N-Channel MOSFET
footprint SSS-Mini-3P (3-Pin Transistor Package, Body 1.2x0.8mm, IPC Low Density); pin to pad D>3 G>1 S>2
footprint SOIC-8_M-MOSFET (SOIC, 8-Leads, Body 4.9x3.9mm, Pitch 1.27mm, IPC Low Density)
footprint TO-252A DPak (3-Pin Transistor Package, Body 6.75x10.4mm, IPC Low Density); pin to pad D>4 G>1 S>3
pins: D, G, S

## Oscillator
designator X?, comment ASDM1-8.000MHZ-LC-T
Oscillator; Name: ASDM1; Value: 8MHz
footprint Crystal-Oscillator-2520 (Crystal Package, Body 2.5x2.0mm, Pitch 1.65mm, IPC Low Density)
pins: 1 ~{Standby}, 2 GND, 3 Out, 4 VDD

## PCA9633DP1
designator U?
4-bit I2C LED driver
footprint SOT505-1 (Small Outline Package, Body 3.0x3.0mm, Pitch 0.65mm, IPC Low Density)
pins: 1 LED0, 2 LED1, 3 LED2, 4 LED3, 5 GND (power), 6 SCL (in), 7 SDA (io), 8 VDD (power)

## pFET
designator Q?
P-Channel MOSFET
footprint SSS-Mini-3P (3-Pin Transistor Package, Body 1.2x0.8mm, IPC Low Density); pin to pad D>3 G>1 S>2
footprint SOIC-8_M-MOSFET (SOIC, 8-Leads, Body 4.9x3.9mm, Pitch 1.27mm, IPC Low Density)
pins: D, G, S

## Powerjack
designator X?, comment PJ-015B-SMT  Current: 5A
Power jack ID 2,5 mm, AD 5,5 mm
footprint PJ-015B-SMT (Power jack vertical SMD connector, Body 15.7x15.7mm, IPC Low Density)
pins: 1, 2, 3

## Push button
designator S?, comment EVPAA
Push button
footprint EVPAA (Push button, Body 3.5x2.9mm, Pitch 2.1mm, IPC Low Density)
pins: 1, 2, 3, 4

## SM02B-SURS
designator X?
wire-to-board connector
footprint SM02B-SURS (Wire-to-board connector, 2 pins, Body 3.8x2.7mm, Pitch 0.8mm, IPC Low Density)
pins: 1, 2, A, B

## SM04B-SURS
designator X?
wire-to-board connector
footprint SM04B-SURS (Wire-to-board connector, 4 pins, Body 5.4x2.7mm, Pitch 0.8mm, IPC Low Density)
pins: 1, 2, 3, 4, A, B

## SM08B-SURS
designator X?
wire-to-board connector
footprint SM08B-SURS (Wire-to-board connector, 8 pins, Body 8.6x2.7mm, Pitch 0.8mm, IPC Low Density)
pins: 1, 2, 3, 4, 5, 6, 7, 8, A, B

## Switch (2x)
designator S?, comment CVS-02B
Double Switch
footprint CVS-02B (Double DIP Switch, Body 4.7x3.0mm, Pitch 1mm, IPC Low Density)
pins: 1, 2, 3, 4

## TCRT1010
designator U?
Reflective Infrared Distance Sensor with Transistor Output
footprint TCRT1010 (Body 7.0x4.0mm, Pitch 1.27mm)
pins: 1 A, 2 C, 3 E, 4 C

## TFDU6301
designator U?, comment TDFU6301
Fast Infrared Transciever Module 4Mbit/s
footprint TFDU6301 (IRDA package, Body 8.5x2.5mm, Pitch 0.95mm, IPC Low Density)
pins: 1 VCC2/IREDA (power), 2 IREDC, 3 TXD (in), 4 RXD (out), 5 ShutDown (in), 6 VCC1 (power), 7 NC, 8 GND (power)

## USB micro
designator X?
Micro USB Connector
footprint USB micro (Micro USB package, Body 7.5x5.0mm)
pins: 1 VDD, 2 D-, 3 D+, 4 ID, 5 GND

## VariableResistor
designator R?, comment N15TS-502A3030  value 5K
Variable Resistor; Set Position: 0.5; Published: 8-Jun-2000; LatestRevisionDate: 17-Jul-2002; LatestRevisionNote: Re-released for DXP Platform.; PackageReference: AXIAL-0.6; Publisher: Rico
footprint N15TV (Potentiometer from Piher, Through Hole Mount, Body 15.5x15.5mm)
footprint N15TS (Potentiometer from Piher, SMD, Body 15.5x15.5mm)
footprint N15TS-nh (Potentiometer from Piher without hole in the middle, SMD, Body 15.5x15.5mm)
footprint MembranePotentiometer (3-pin connector to membrane potentiometer, Pitch 2.54mm, IPC Low Density); pin to pad 2>3 3>2
pins: 1, 2, 3

## WT11
designator X?, comment WT11-A-AI
Bluetooth Module; Company: Bluegiga
footprint WT11-A (Bluetooth Module, Body 35.3x14mm, Pitch 1.5mm, IPC Low Density)
footprint WT11-A-clearance (Bluetooth Module, Body 35.3x14mm, Pitch 1.5mm, IPC Low Density)
pins: 1 GND (power), 2 VDD (power), 3 PIO2 (io), 4 PIO3 (io), 5 ~{UART_RTS} (out), 6 UART_RXD (in), 7 PCM_OUT (out), 8 USB_D+ (io), 9 USB_D- (io), 10 ~{UART_CTS} (in), 11 PCM_IN (in), 12 PCM_CLK (io), 13 PCM_SYNC (io), 14 GND (power), 15 GND (power), 16 VDD (power), 17 RESET (in), 18 PIO6 (io), 19 PIO7 (io), 20 PIO4 (io), 21 CSB (in), 22 CLK (in), 23 MISO (out), 24 MOSI (in), 25 PIO5 (io), 26 UART_TXD (out), 27 AIO, 28 GND (power)